# EAGLE library part DA2034-ALD (library DA2034-ALD)
Audio Transformers / Signal Transformers DA2032 Cap Chrgr For Linear LT3750/51 Source: Datasheet <https://www.coilcraft.com/pdfs/da2032.pdf>
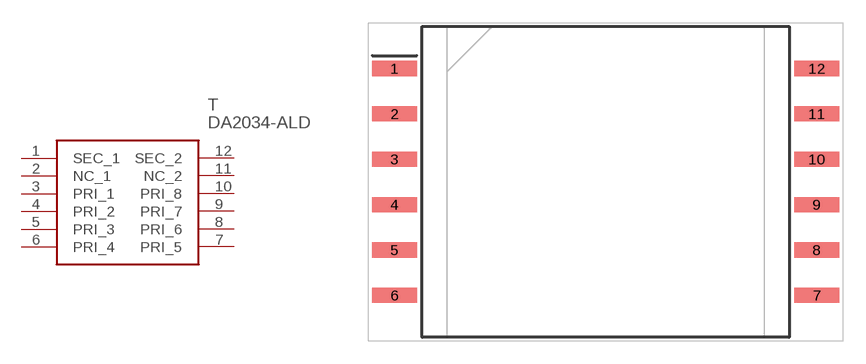
[diagram p0: symbol with the pads of SOP300P3000X1143-12N; footprint SOP300P3000X1143-12N]

Designator prefix T

## DA2034-ALD (Description: Audio Transformers / Signal Transformers DA2032 Cap Chrgr For Linear LT3750/51; Height: 11.43mm; Manufacturer_Name: COILCRAFT; Manufacturer_Part_Number: DA2034-ALD; Mouser_Part_Number: 994-DA2034-ALD; Mouser_Price-Stock: https://www.mouser.co.uk/ProductDetail/Coilcraft/DA2034-ALD?qs=ZYnrCdKdyedtN304hL7iMg%3D%3D)  [SOP300P3000X1143-12N]
1  SEC_1
2  NC_1
3  PRI_1
4  PRI_2
5  PRI_3
6  PRI_4
7  PRI_5
8  PRI_6
9  PRI_7
10  PRI_8
11  NC_2
12  SEC_2

## Footprint SOP300P3000X1143-12N (pad centres in mm)
DA2034-ALD_11
smd 2.95 x 1: 1 -13.975,7.5; 2 -13.975,4.5; 3 -13.975,1.5; 4 -13.975,-1.5; 5 -13.975,-4.5; 6 -13.975,-7.5; 7 13.975,-7.5; 8 13.975,-4.5; 9 13.975,-1.5; 10 13.975,1.5; 11 13.975,4.5; 12 13.975,7.5